# Altium footprint library parts.PCBLIB: 35 footprints (part 2 of 3)
Each footprint in its own frame and in the unit in brackets; x right, y up, seen from the top. Pads: shape width x height; smd on the part's side, far side on the other; paste and mask are expansions set on the pad; w line width, h text height; cw(c..) or ccw(c..) is an arc to the next point about the centre after c.
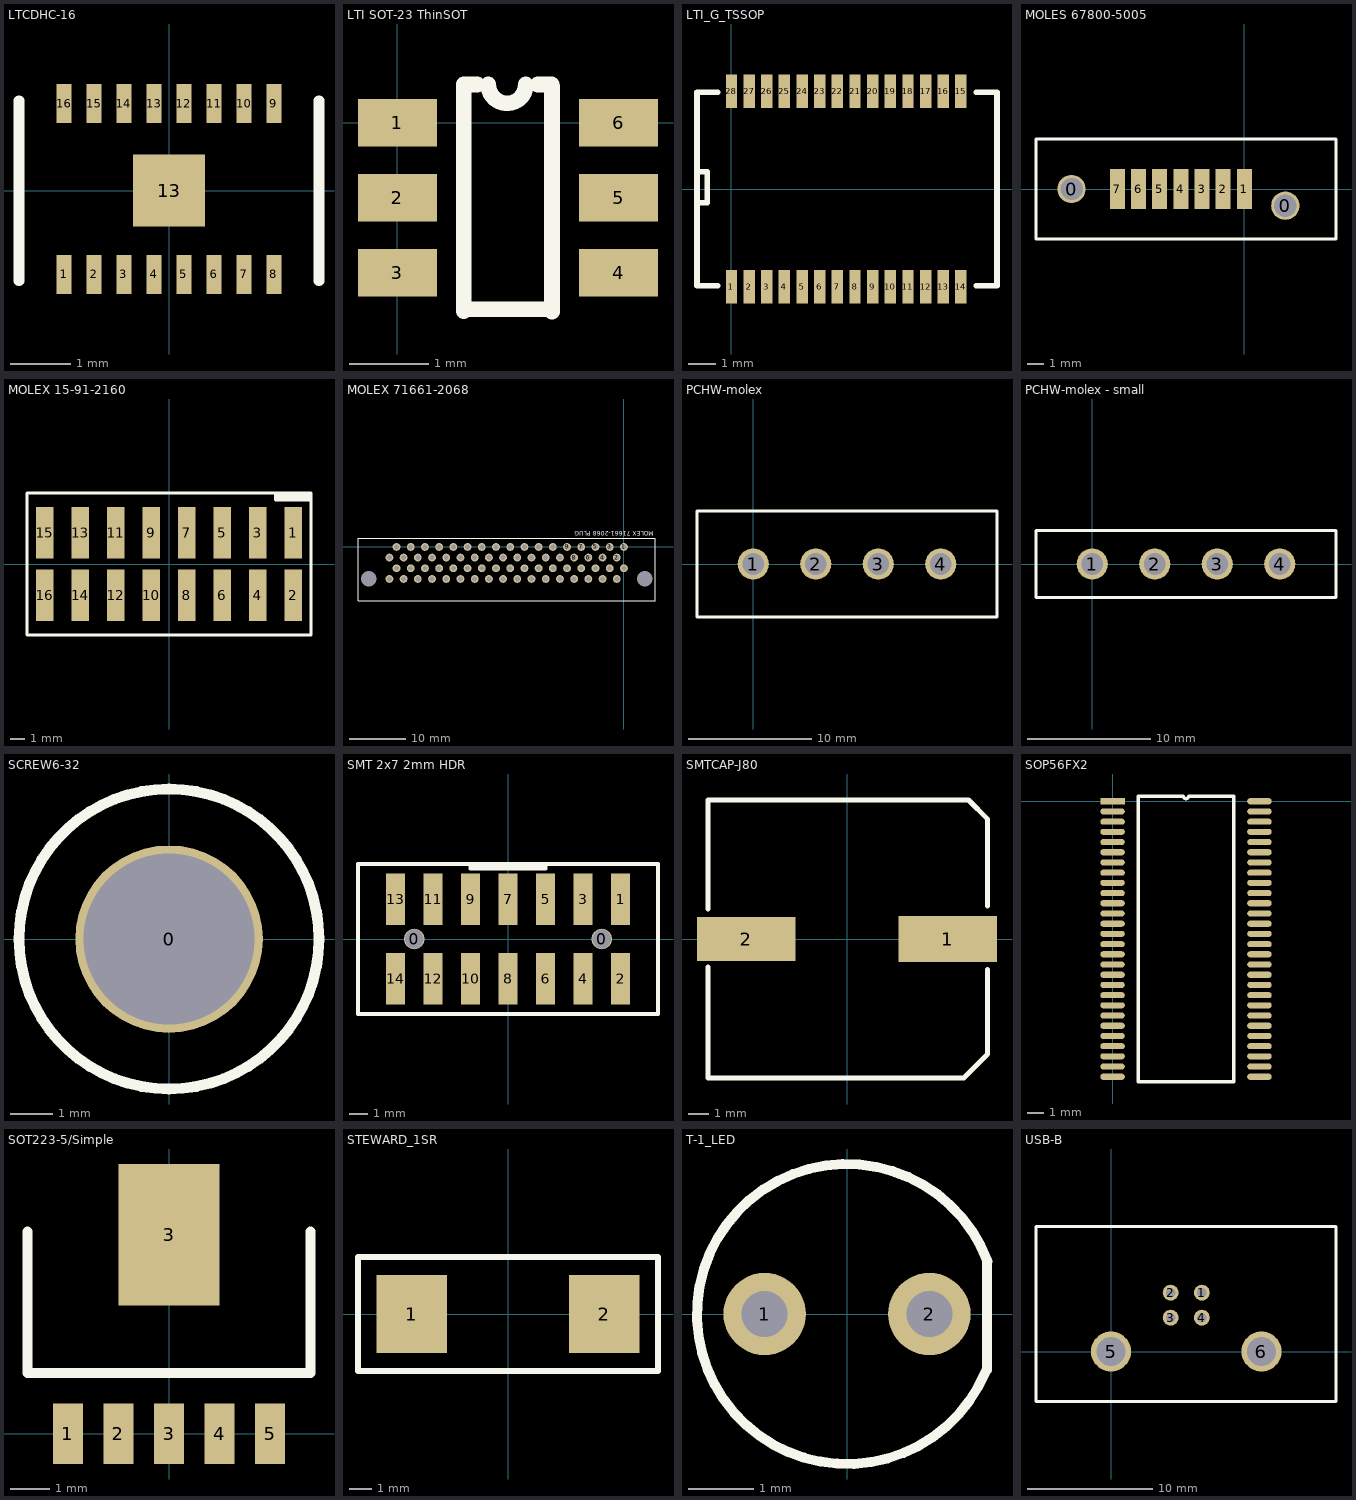
[diagram p1: the footprints below, top view; thin cyan lines are the x and y axes]

## LTCDHC-16 [mm] "16-lead plastic DFN from LTI"
pads (17):
  rect 0.25x0.65 smd: 1(-1.75,-1.397) 2(-1.25,-1.397) 3(-0.75,-1.397) 4(-0.25,-1.397) 5(0.25,-1.397) 6(0.75,-1.397) 7(1.25,-1.397) 8(1.75,-1.397) 9(1.75,1.453) 10(1.25,1.453) 11(0.75,1.453) 12(0.25,1.453) 13(-0.25,1.453) 14(-0.75,1.453) 15(-1.25,1.453) 16(-1.75,1.453)
  rect 1.2x1.2 smd: 13(0,0)
Top Overlay:
  lines w0.178: -2.5,-1.5 -2.5,1.5 ; 2.5,-1.5 2.5,1.5

## LTI SOT-23 ThinSOT [mm]
pads (6):
  rect 1x0.6 smd: 1(0,0) 2(0,-0.95) 3(0,-1.9) 4(2.8,-1.9) 5(2.8,-0.95) 6(2.8,0)
Top Overlay:
  lines w0.2: 0.838,-2.388 0.838,0.462 ; 0.838,-2.362 1.956,-2.362 ; 0.838,0.483 1.011,0.483 ; 1.151,0.483 ccw(c1.388,0.483) 1.626,0.483 ; 1.778,0.483 1.95,0.483 ; 1.956,-2.393 1.956,0.457

## LTI_G_TSSOP [mm]
pads (28):
  rect 0.42x1.25 smd: 1(0,-3.6) 2(0.65,-3.6) 3(1.3,-3.6) 4(1.95,-3.6) 5(2.6,-3.6) 6(3.25,-3.6) 7(3.9,-3.6) 8(4.55,-3.6) 9(5.2,-3.6) 10(5.85,-3.6) 11(6.5,-3.6) 12(7.15,-3.6) 13(7.8,-3.6) 14(8.45,-3.6) 15(8.45,3.6) 16(7.8,3.6) 17(7.15,3.6) 18(6.5,3.6) 19(5.85,3.6) 20(5.2,3.6) 21(4.55,3.6) 22(3.9,3.6) 23(3.25,3.6) 24(2.6,3.6) 25(1.95,3.6) 26(1.3,3.6) 27(0.65,3.6) 28(0,3.6)
Top Overlay:
  lines w0.203: -1.27,-0.508 -0.889,-0.508 -0.889,0.635 -1.27,0.635 ; -0.508,-3.556 -1.27,-3.556 -1.27,3.556 -0.508,3.556 ; 9.017,-3.556 9.779,-3.556 9.779,3.556 9.017,3.556

## MOLES 67800-5005 [mm] "SATA vertical PCB HEADER SMT"
pads (9):
  round 1.7 hole 1.35: 0(-10.37,0) 0(2.46,-1)
  rect 0.9x2.4 smd: 1(0,0) 2(-1.27,0) 3(-2.54,0) 4(-3.81,0) 5(-5.08,0) 6(-6.35,0) 7(-7.62,0)
Top Overlay:
  lines w0.178: -12.5,-3 -12.5,3 5.5,3 5.5,-3 ; -12.5,-3 5.5,-3 ; -12.5,-3 5.5,-3

## MOLEX 15-91-2160 [mm] "SMT 100-mil pitch 16 -pin dual-row header"
pads (16):
  rect 1.27x3.68 smd: 1(8.89,2.22) 2(8.89,-2.22) 3(6.35,2.22) 4(6.35,-2.22) 5(3.81,2.22) 6(3.81,-2.22) 7(1.27,2.22) 8(1.27,-2.22) 9(-1.27,2.22) 10(-1.27,-2.22) 11(-3.81,2.22) 12(-3.81,-2.22) 13(-6.35,2.22) 14(-6.35,-2.22) 15(-8.89,2.22) 16(-8.89,-2.22)
Top Overlay:
  lines w0.203: 7.62,5.08 7.62,4.572 10.16,4.572 ; 7.747,4.699 10.16,4.699 ; 10.16,4.826 7.62,4.826 7.747,4.953 10.16,4.953 ; -10.16,-5.08 10.16,-5.08 10.16,5.08 -10.16,5.08 -10.16,-5.08

## MOLEX 71661-2068 [mil] "Moles 68-pin EBBI 50 mil right angle plug connector, same as U320 SCSI"
pads (70):
  round 46 hole 110: 0(-1796,-225) 0(146,-225)
  round 55 hole 35: 1(0,0) 2(-50,-75) 3(-100,0) 4(-150,-75) 5(-200,0) 6(-250,-75) 7(-300,0) 8(-350,-75) 9(-400,0) 10(-450,-75) 11(-500,0) 12(-550,-75) 13(-600,0) 14(-650,-75) 15(-700,0) 16(-750,-75) 17(-800,0) 18(-850,-75) 19(-900,0) 20(-950,-75) 21(-1000,0) 22(-1050,-75) 23(-1100,0) 24(-1150,-75) 25(-1200,0) 26(-1250,-75) 27(-1300,0) 28(-1350,-75) 29(-1400,0) 30(-1450,-75) 31(-1500,0) 32(-1550,-75) 33(-1600,0) 34(-1650,-75) 35(0,-150) 36(-50,-225) 37(-100,-150) 38(-150,-225) 39(-200,-150) 40(-250,-225) 41(-300,-150) 42(-350,-225) 43(-400,-150) 44(-450,-225) 45(-500,-150) 46(-550,-225) 47(-600,-150) 48(-650,-225) 49(-700,-150) 50(-750,-225) 51(-800,-150) 52(-850,-225) 53(-900,-150) 54(-950,-225) 55(-1000,-150) 56(-1050,-225) 57(-1100,-150) 58(-1150,-225) 59(-1200,-150) 60(-1250,-225) 61(-1300,-150) 62(-1350,-225) 63(-1400,-150) 64(-1450,-225) 65(-1500,-150) 66(-1550,-225) 67(-1600,-150) 68(-1650,-225)
Top Overlay:
  lines w8: -1871,-380.12 221,-380.12 221,60 -1871,60 -1871,-380.12
  text "MOLEX 71661-2068 PLUG" at 210,110 h30

## PCHW-molex [mil] "PC hardware molex connector, like that on hard drives. Molex part 15-24-4157"
pads (4):
  round 100 hole 70: 1(0,0) 2(200,0) 3(400,0) 4(600,0)
Top Overlay:
  lines w10: -180,-170 780,-170 780,170 -180,170 -180,-170

## PCHW-molex - small [mil]
pads (4):
  round 100 hole 70: 1(0,0) 2(200,0) 3(400,0) 4(600,0)
Top Overlay:
  lines w10: -180,-107.5 780,-107.5 780,107.5 -180,107.5 -180,-107.5

## SCREW6-32 [mil] "6-32 screw"
pads (1):
  round 175 hole 160 paste-20 mask+30: 0(0,0)
Top Overlay:
  circle w10: c0,0 r140
Bottom Overlay:
  circle w10: c0,0 r140

## SMT 2x7 2mm HDR [mm] "SMT dual-row 14-pin SMT header with posts, like Molex 87832-1420"
pads (16):
  round 1.1 hole 1: 0(-5,0) 0(5,0)
  rect 1x2.75 smd: 1(6,2.125) 2(6,-2.125) 3(4,2.125) 4(4,-2.125) 5(2,2.125) 6(2,-2.125) 7(0,2.125) 8(0,-2.125) 9(-2,2.125) 10(-2,-2.125) 11(-4,2.125) 12(-4,-2.125) 13(-6,2.125) 14(-6,-2.125)
Top Overlay:
  rectangle: -2,3.75 2,4
  lines w0.203: -1.75,3.75 -2,4 -2,3.75 2,3.75 2,4 1.75,3.75 ; -8,-4 8,-4 8,4 -8,4 -8,-4

## SMTCAP-J80 [mm]
pads (2):
  rect 4.9x2.28 smd: 1(5,0)
  rect 4.9x2.2 smd: 2(-5,0)
Top Overlay:
  lines w0.254: -6.9,-1.397 -6.9,-6.9 5.8,-6.9 ; -6.9,1.5 -6.9,6.9 6.032,6.9 6.985,5.947 6.985,1.651 ; 5.397,-6.9 5.8,-6.9 ; 6.985,-1.524 6.985,-5.715 5.8,-6.9

## SOP56FX2 [mil]
pads (56):
  rect 60x15 smd: 1(0,0)
  oval 60x15 smd: 2(0,-25) 3(0,-50) 4(0,-75) 5(0,-100) 6(0,-125) 7(0,-150) 8(0,-175) 9(0,-200) 10(0,-225) 11(0,-250) 12(0,-275) 13(0,-300) 14(0,-325) 15(0,-350) 16(0,-375) 17(0,-400) 18(0,-425) 19(0,-450) 20(0,-475) 21(0,-500) 22(0,-525) 23(0,-550) 24(0,-575) 25(0,-600) 26(0,-625) 27(0,-650) 28(0,-675) 29(360,-675) 30(360,-650) 31(360,-625) 32(360,-600) 33(360,-575) 34(360,-550) 35(360,-525) 36(360,-500) 37(360,-475) 38(360,-450) 39(360,-425) 40(360,-400) 41(360,-375) 42(360,-350) 43(360,-325) 44(360,-300) 45(360,-275) 46(360,-250) 47(360,-225) 48(360,-200) 49(360,-175) 50(360,-150) 51(360,-125) 52(360,-100) 53(360,-75) 54(360,-50) 55(360,-25) 56(360,0)
Top Overlay:
  lines w8: 63,-687.5 297,-687.5 297,12.5 186.25,12.5 cw(c180,12.5) 173.75,12.5 63,12.5 63,-687.5

## SOT223-5/Simple [mil] "SOT-223 without large heatsink"
pads (6):
  rect 30x60 smd: 1(-100,0) 2(-50,0) 3(0,0) 4(50,0) 5(100,0)
  rect 100x140 smd: 3(0,196.85)
Top Overlay:
  lines w10: -140,200 -140,60 140,60 140,200

## STEWARD_1SR [mil]
pads (2):
  rect 124x136 smd: 1(-169,0) 2(169,0)
Top Overlay:
  lines w10: -263,-100 -263,0 -263,100 263,100 263,-100 -263,-100

## T-1_LED [mil]
pads (2):
  round 50 hole 28: 1(-50,0) 2(50,0)
Top Overlay:
  lines w6: 83.98,-35.07 cw(c0,0) 85.21,31.95 ; 85,-34 85,32.05

## USB-B [mm]
pads (6):
  round 1.27 hole 0.762: 1(7.27,4.71) 2(4.77,4.71) 3(4.77,2.71) 4(7.27,2.71)
  round 3.2 hole 2.3: 5(0,0) 6(12.04,0)
Top Overlay:
  lines w0.254: -6,-4 6,-4 18,-4 18,10 16,10 -6,10 -6,0 -6,-4